# Altium footprint library PcbLib1.PcbLib: 32 footprints (part 1 of 2)
Each footprint in its own frame and in the unit in brackets; x right, y up, seen from the top. Pads: shape width x height; smd on the part's side, far side on the other; paste and mask are expansions set on the pad; w line width, h text height; cw(c..) or ccw(c..) is an arc to the next point about the centre after c.
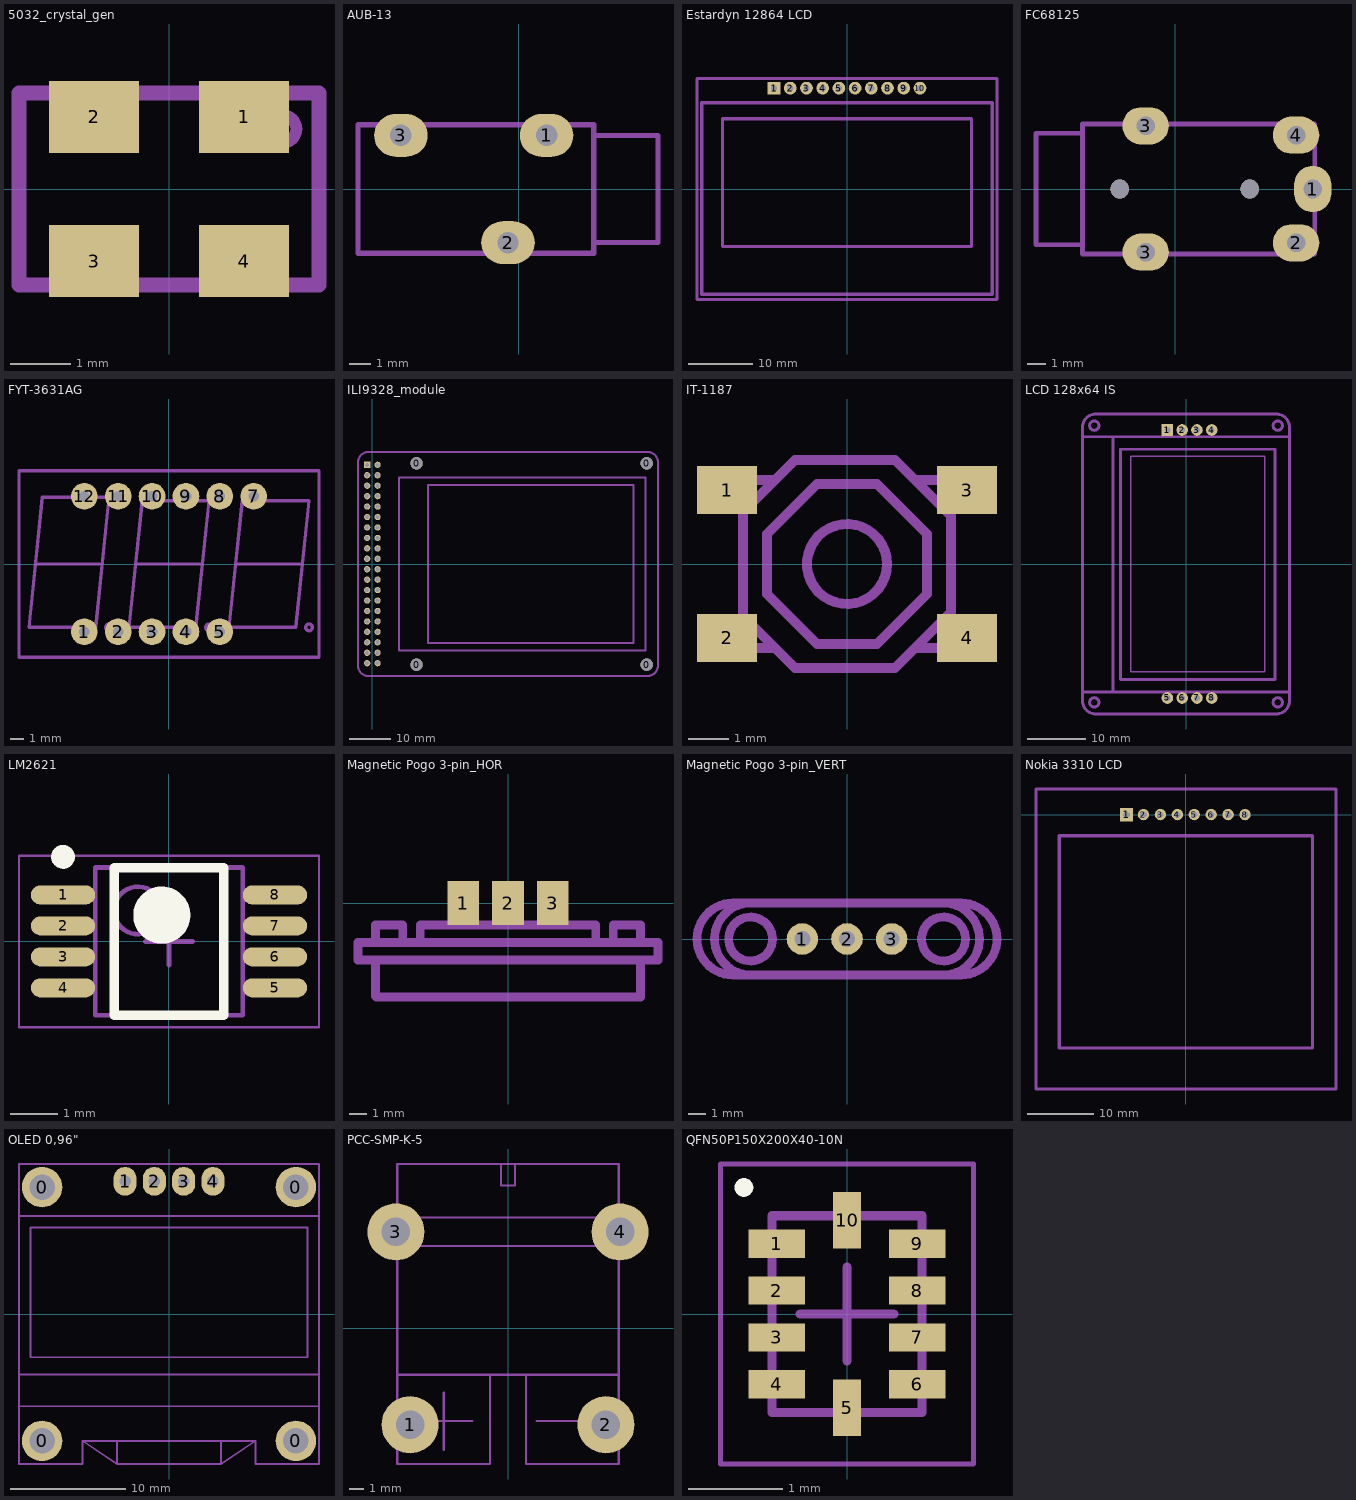
[diagram p0: the footprints below, top view; thin cyan lines are the x and y axes]

## 5032_crystal_gen [mm]
height 1
pads (4):
  rect 1.5x1.2 smd: 1(1.25,1.2) 2(-1.25,1.2) 3(-1.25,-1.2) 4(1.25,-1.2)
Mechanical 13:
  circle w0.2: c1.9,1 r0.224
  lines w0.25: -2.5,-1.6 2.5,-1.6 2.5,1.6 -2.5,1.6 -2.5,-1.6

## AUB-13 [mm]
height 5
pads (3):
  oval 2.5x2 hole 1: 1(1.3,2.5) 2(-0.5,-2.5) 3(-5.5,2.5)
Mechanical 13:
  lines w0.25: 3.5,-2.5 6.5,-2.5 6.5,2.5 3.5,2.5 ; -7.5,-3 3.5,-3 3.5,3 -7.5,3 -7.5,-3

## Estardyn 12864 LCD [mm]
pads (10):
  rect 2x2 hole 1: 1(-11.43,15.8)
  round 2 hole 1: 2(-8.89,15.8) 3(-6.35,15.8) 4(-3.81,15.8) 5(-1.27,15.8) 6(1.27,15.8) 7(3.81,15.8) 8(6.35,15.8) 9(8.89,15.8) 10(11.43,15.8)
Mechanical 13:
  lines w0.5: -23.5,-17.3 -23.5,17.3 23.5,17.3 23.5,-17.3 -23.5,-17.3 ; -22.75,-16.5 22.75,-16.5 22.75,13.5 -22.75,13.5 -22.75,-16.5 ; -19.5,-9 19.5,-9 19.5,11 -19.5,11 -19.5,-9

## FC68125 [mm]
height 5
pads (5):
  oval 2x2.5 hole 1: 1(7.4,0)
  oval 2.5x2 hole 1: 2(6.5,-2.9) 3(-1.6,-3.4) 3(-1.6,3.4) 4(6.5,2.9)
via -3,0 diameter 1 hole 1
via 4,0 diameter 1 hole 1
Mechanical 13:
  lines w0.25: -5,-3 -5,3 ; -5,-3 -5,-3.5 7.5,-3.5 7.5,3.5 -5,3.5 -5,3 ; -5,-3 -7.5,-3 -7.5,3 -5,3

## FYT-3631AG [mm]
height 8
pads (11):
  round 2 hole 0.8 mask+0.102: 1(-6.35,-5.08) 2(-3.81,-5.08) 3(-1.27,-5.08) 4(1.27,-5.08) 5(3.81,-5.08) 7(6.35,5.08) 8(3.81,5.08) 9(1.27,5.08) 10(-1.27,5.08) 11(-3.81,5.08) 12(-6.35,5.08)
Mechanical 13:
  circle w0.25: c-4.5,-4.75 r0.25
  circle w0.25: c3,-4.75 r0.25
  circle w0.25: c10.5,-4.75 r0.25
  lines w0.25: -10,0 -5,0 ; -2.5,0 2.5,0 ; 5,0 10,0 ; -11.25,-7 -11.25,7 11.25,7 11.25,-7 -11.25,-7 ; -10.5,-4.75 -9.5,5 -4.5,5 -5.5,-4.75 -10.5,-4.75 ; -3,-4.75 -2,4.75 3,4.75 2,-4.75 -3,-4.75 ; 4.5,-4.75 5.5,4.75 10.5,4.75 9.5,-4.75 4.5,-4.75

## ILI9328_module [mil]
height 314.96
pads (44):
  round 118.11 hole 118.11 unplated: 0(423.23,-964.57) 0(423.23,964.57) 0(2627.95,-964.57) 0(2627.95,964.57)
  rect 60x60 hole 39.37: 1(-50,950)
  round 60 hole 39.37: 2(50,950) 3(-50,850) 4(50,850) 5(-50,750) 6(50,750) 7(-50,650) 8(50,650) 9(-50,550) 10(50,550) 11(-50,450) 12(50,450) 13(-50,350) 14(50,350) 15(-50,250) 16(50,250) 17(-50,150) 18(50,150) 19(-50,50) 20(50,50) 21(-50,-50) 22(50,-50) 23(-50,-150) 24(50,-150) 25(-50,-250) 26(50,-250) 27(-50,-350) 28(50,-350) 29(-50,-450) 30(50,-450) 31(-50,-550) 32(50,-550) 33(-50,-650) 34(50,-650) 35(-50,-750) 36(50,-750) 37(-50,-850) 38(50,-850) 39(-50,-950) 40(50,-950)
Mechanical 13:
  lines w19.68: -137.8,-974.41 ccw(c-39.37,-974.41) -39.37,-1072.83 2635.41,-1072.83 ccw(c2635.41,-972.02) 2736.22,-972.02 2736.22,974.41 ccw(c2637.79,974.41) 2637.79,1072.83 -39.37,1072.83 ccw(c-39.37,974.41) -137.8,974.41 -137.8,-974.41 ; 255.91,-826.77 2618.11,-826.77 2618.11,826.77 255.91,826.77 255.91,-826.77 ; 531.5,-757.87 2500,-757.87 2500,757.87 531.5,757.87 531.5,-757.87

## IT-1187 [mm]
pads (4):
  rect 1.5x1.2 smd: 1(-3,1.85) 2(-3,-1.85) 3(3,1.85) 4(3,-1.85)
Mechanical 13:
  circle w0.25: c0,0 r1
  lines w0.25: -2.3,-1.6 -3.2,-1.6 -3.2,-2.1 -1.8,-2.1 ; -2.3,1.6 -3.2,1.6 -3.2,2.1 -1.8,2.1 ; 1.7,-2.1 3.2,-2.1 3.2,-1.6 2.2,-1.6 ; 1.7,2.1 3.2,2.1 3.2,1.6 2.2,1.6 ; -0.75,-2 -2,-0.75 -2,0.75 -0.75,2 0.75,2 2,0.75 2,-0.75 0.75,-2 ; -0.75,-2 0.75,-2 ; -0.75,-2 0.75,-2 ; -2.6,-1.3 -2.6,1.3 -1.3,2.6 1.2,2.6 2.6,1.2 2.6,-1.2 1.2,-2.6 -1.3,-2.6 -2.6,-1.3

## LCD 128x64 IS [mm]
pads (8):
  rect 2x2 hole 1: 1(-3.2,23)
  round 2 hole 1: 2(-0.66,23) 3(1.88,23) 4(4.42,23) 5(-3.2,-23) 6(-0.66,-23) 7(1.88,-23) 8(4.42,-23)
Mechanical 13:
  circle w0.5: c-15.75,23.75 r0.8
  circle w0.5: c15.75,23.75 r0.8
  circle w0.5: c-15.75,-23.75 r0.8
  circle w0.5: c15.75,-23.75 r0.8
  lines w0.25: -9.5,-18.5 13.5,-18.5 13.5,18.5 -9.5,18.5 -9.5,-18.5
  lines w0.5: -17.75,21.85 17.5,21.85 ; -17.5,-21.95 17.75,-21.95 ; -12.5,-21.75 -12.5,21.75 ; -17.75,-23.5 ccw(c-15.5,-23.5) -15.5,-25.75 15.5,-25.75 ccw(c15.5,-23.5) 17.75,-23.5 17.75,23.5 ccw(c15.5,23.5) 15.5,25.75 -15.5,25.75 ccw(c-15.5,23.5) -17.75,23.5 -17.75,-23.5 ; -11.25,-19.8 -11.25,19.7 15.25,19.7 15.25,-19.8 -11.25,-19.8

## LM2621 [mm] "TSOP, 8-Leads, Body 3,00x3,00mm, Pitch 0,65mm, IPC Medium Density"
height 1.1
pads (8):
  oval 1.35x0.4 smd: 1(-2.225,0.975) 2(-2.225,0.325) 3(-2.225,-0.325) 4(-2.225,-0.975) 5(2.225,-0.975) 6(2.225,-0.325) 7(2.225,0.325) 8(2.225,0.975)
Top Overlay:
  circle w0.25: c-2.225,1.775 r0.125
  circle w0.6: c-0.15,0.55 r0.3
  lines w0.2: -1.15,-1.55 -1.15,1.55 1.15,1.55 1.15,-1.55 -1.15,-1.55
Mechanical 13:
  circle w0.1: c-0.65,0.65 r0.5
  lines w0.1: -1.55,-1.55 -1.55,1.55 1.55,1.55 1.55,-1.55 -1.55,-1.55
Mechanical 15:
  lines w0.05: -3.15,-1.8 -3.15,1.8 3.15,1.8 3.15,-1.8 -3.15,-1.8
  lines w0.1: -0.5,0 0.5,0 ; 0,-0.5 0,0.5
3D body: height 1.1, standoff 0.05, extent -1.55,-1.55 1.55,1.55

## Magnetic Pogo 3-pin_HOR [mm]
pads (3):
  rect 1.8x2.5 smd: 1(-2.54,0) 2(0,0) 3(2.54,0)
Mechanical 13:
  lines w0.5: -7.55,-3.25 -7.55,-5.3 -7.5,-5.35 7.55,-5.35 7.55,-3.25 ; -7.55,-2.25 -7.55,-1.25 -6,-1.25 -6,-2.25 -5,-2.25 -5,-1.25 5,-1.25 5,-2.25 6,-2.25 6,-1.25 7.55,-1.25 7.55,-2.25 ; -2.873,-1.25 -2.873,0.25 -2.123,0.25 -2.123,-1.25 ; -0.375,-1.25 -0.375,0.25 0.375,0.25 0.375,-1.25 ; 2.127,-1.25 2.127,0.25 2.877,0.25 2.877,-1.25 ; -8.55,-3.25 8.55,-3.25 8.55,-2.25 -8.55,-2.25 -8.55,-3.25

## Magnetic Pogo 3-pin_VERT [mm]
pads (3):
  round 1.8 hole 0.9: 1(-2.54,0) 2(0,0) 3(2.54,0)
Mechanical 13:
  circle w0.5: c5.5,0 r1.25
  circle w0.5: c-5.5,0 r1.25
  lines w0.5: -5.5,-2.05 cw(c-5.5,0) -5.5,2.05 ; -5.5,-2.05 -6.5,-2.05 cw(c-6.5,0) -6.5,2.05 -5.5,2.05 ; -5.5,-2.05 5.5,-2.05 ; -5.5,2.05 5.5,2.05 ; 5.5,-2.05 ccw(c5.5,0) 5.5,2.05 ; 5.5,-2.05 6.5,-2.05 ccw(c6.5,0) 6.5,2.05 5.5,2.05

## MCP4725A0T-E/CH [mm]

## Nokia 3310 LCD [mm]
pads (8):
  rect 2x2 hole 1: 1(-8.89,0)
  round 1.7 hole 1 paste+0: 2(-6.35,0) 3(-3.81,0) 4(-1.27,0) 5(1.27,0) 6(3.81,0) 7(6.35,0) 8(8.89,0)
Mechanical 15:
  lines w0.5: -22.47,-41.16 -22.47,3.84 22.53,3.84 22.53,-41.16 -22.47,-41.16 ; -19,-35 19,-35 19,-3.16 -19,-3.16 -19,-35

## OLED 0,96" [mm]
pads (8):
  round 3.5 hole 2.2 unplated: 0(-11,-11) 0(-11,11) 0(11,-11) 0(11,11)
  oval 2x2.5 hole 1: 1(-3.81,11.5) 2(-1.27,11.5) 3(1.27,11.5) 4(3.81,11.5)
Mechanical 13:
  lines w0.15: -13,-8 13,-8 ; -13,-5.25 13,-5.25 ; -13,8.5 13,8.5 ; -4.5,-11 -4.5,-13 ; 4.5,-11 4.5,-13 ; -7.5,-11 -4.5,-13 ; -7.5,-11 7.5,-11 ; -7.5,-11 -7.5,-13 -13,-13 -13,13 13,13 13,-13 7.5,-13 7.5,-11 ; -4.5,-13 4.5,-13 ; 4.5,-13 7.5,-11 ; -12,-3.75 12,-3.75 12,7.5 -12,7.5 -12,-3.75
3D body "OLED_0.96in.step": height 6.75, standoff -4.85, extent -13,-13 13,13

## PCC-SMP-K-5 [mm]
pads (4):
  round 4 hole 2: 1(-6.85,-6.75) 2(6.85,-6.75) 3(-7.85,6.75) 4(7.85,6.75)
Mechanical 13:
  lines w0.15: -7.75,5.75 7.75,5.75 ; -7.75,7.75 7.75,7.75 ; -6.5,-6.5 -2.5,-6.5 ; -4.5,-8.5 -4.5,-4.5 ; -1.25,-3.25 -1.25,-9.5 -7.75,-9.5 -7.75,-3.25 ; -0.5,11.5 -0.5,10 0.5,10 0.5,11.5 ; 1.25,-3.25 1.25,-9.5 7.75,-9.5 7.75,-3.25 ; 2,-6.5 6,-6.5 ; -7.75,-3.25 7.75,-3.25 ; -7.75,-3.25 -7.75,11.5 7.75,11.5 7.75,-3.25
3D body "Разъем термопары.step": height 6.6, standoff -3.5, extent -8.15,-9.25 8.15,11.55

## QFN50P150X200X40-10N [mm] "QFN, 10-Leads, Body 1,50x2,00mm, Pitch 0,50mm, IPC Medium Density"
height 0.4
pads (10):
  rect 0.6x0.3 smd: 1(-0.75,0.75) 2(-0.75,0.25) 3(-0.75,-0.25) 4(-0.75,-0.75) 6(0.75,-0.75) 7(0.75,-0.25) 8(0.75,0.25) 9(0.75,0.75)
  rect 0.3x0.6 smd: 5(0,-1) 10(0,1)
Top Overlay:
  circle w0.1: c-1.1,1.35 r0.05
Mechanical 13:
  lines w0.1: -0.8,-1.05 0.8,-1.05 0.8,1.05 -0.8,1.05 -0.8,-1.05
Mechanical 15:
  lines w0.05: -1.35,-1.6 1.35,-1.6 1.35,1.6 -1.35,1.6 -1.35,-1.6
  lines w0.1: -0.5,0 0.5,0 ; 0,-0.5 0,0.5
3D body: height 0.4, standoff 0.05, extent -0.8,-1.05 0.8,1.05